# Altium integrated library LM5575MH.IntLib: 1 symbol
Pins are listed as number, name and electrical type; pins without a type are passive.

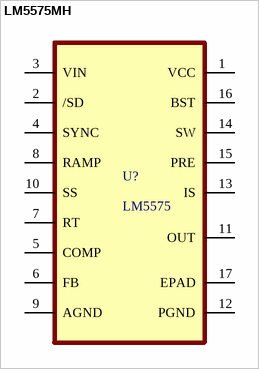
[diagram p0: symbol LM5575MH]

## LM5575MH
designator U?, comment LM5575
6V to 75V, 1.5A Wide Vin Step-Down Regulator 16-HTSSOP -40 to 125; MP: LM5575MH; MF: Texas Instruments; Price: None; SnapEDA_Link: https://www.snapeda.com/parts/LM5575MH/Texas%20Instruments/view-part/17765/?ref=snap; Availability: Warning; Value: *; DigiKey-Purchase-URL: https://snapeda.com/shop?store=DigiKey&id=17765; Package: HTSSOP-16 Texas Instruments
footprint SOP65P640X120-17N
pins: 1 VCC (power), 2 /SD, 3 VIN, 4 SYNC, 5 COMP, 6 FB, 7 RT, 8 RAMP, 9 AGND (power), 10 SS, 11 OUT, 12 PGND (power), 13 IS, 14 SW, 15 PRE, 16 BST, 17 EPAD (power)